# Altium schematic symbol library SK02-111006NL.Schlib: 1 symbol
Pins are listed as number, name and electrical type; pins without a type are passive.

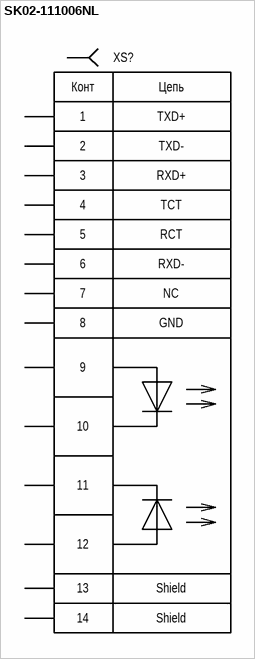
[diagram p0: symbol SK02-111006NL]

## SK02-111006NL
designator XS?
pins: 1 TXD+, 2 TXD-, 3 RXD+, 4 TCT, 5 RCT, 6 RXD-, 7 NC, 8 GND, 9, 10, 11, 12, 13, 14, 15 hidden, 16 hidden
text: Конт; Цепь; Shield